# Altium schematic symbol library B0505.SchLib: 1 symbol
Pins are listed as number, name and electrical type; pins without a type are passive.

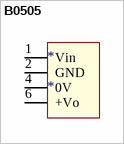
[diagram p0: symbol B0505]

## B0505
designator *
pins: 1 Vin, 2 GND, 4 0V, 6 +Vo